# Altium schematic symbol library MCU_RaspberryPi.SchLib: 1 symbol
Pins are listed as number, name and electrical type; pins without a type are passive.

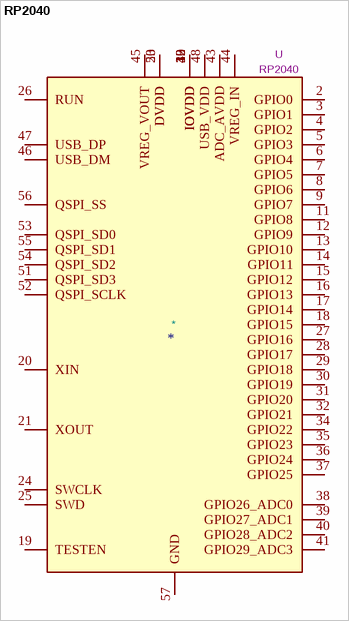
[diagram p0: symbol RP2040]

## RP2040
designator *  value RP2040  Reference: U
A microcontroller by Raspberry Pi; ki_keywords: RP2040 ARM Cortex-M0+ USB; ki_fp_filters: QFN*1EP*7x7mm?P0.4mm*; Footprint: Package_DFN_QFN:QFN-56-1EP_7x7mm_P0.4mm_EP3.2x3.2mm; Datasheet: https://datasheets.raspberrypi.com/rp2040/rp2040-datasheet.pdf; Description_: A microcontroller by Raspberry Pi
pins: 1 IOVDD, 2 GPIO0, 3 GPIO1, 4 GPIO2, 5 GPIO3, 6 GPIO4, 7 GPIO5, 8 GPIO6, 9 GPIO7, 10 IOVDD, 11 GPIO8, 12 GPIO9, 13 GPIO10, 14 GPIO11, 15 GPIO12, 16 GPIO13, 17 GPIO14, 18 GPIO15, 19 TESTEN, 20 XIN, 21 XOUT, 22 IOVDD, 23 DVDD, 24 SWCLK, 25 SWD, 26 RUN, 27 GPIO16, 28 GPIO17, 29 GPIO18, 30 GPIO19, 31 GPIO20, 32 GPIO21, 33 IOVDD, 34 GPIO22, 35 GPIO23, 36 GPIO24, 37 GPIO25, 38 GPIO26_ADC0, 39 GPIO27_ADC1, 40 GPIO28_ADC2, 41 GPIO29_ADC3, 42 IOVDD, 43 ADC_AVDD, 44 VREG_IN, 45 VREG_VOUT, 46 USB_DM, 47 USB_DP, 48 USB_VDD, 49 IOVDD, 50 DVDD, 51 QSPI_SD3, 52 QSPI_SCLK, 53 QSPI_SD0, 54 QSPI_SD2, 55 QSPI_SD1, 56 QSPI_SS, 57 GND